# EAGLE library part LT3507A (library PowerProducts)
LT-Spice library generated with : ltspice.ulp from: E:/Programme/LTC/LTspiceIV/lib/sym/PowerProducts/LT3508*.asy at 05.10.2012 12:29:29
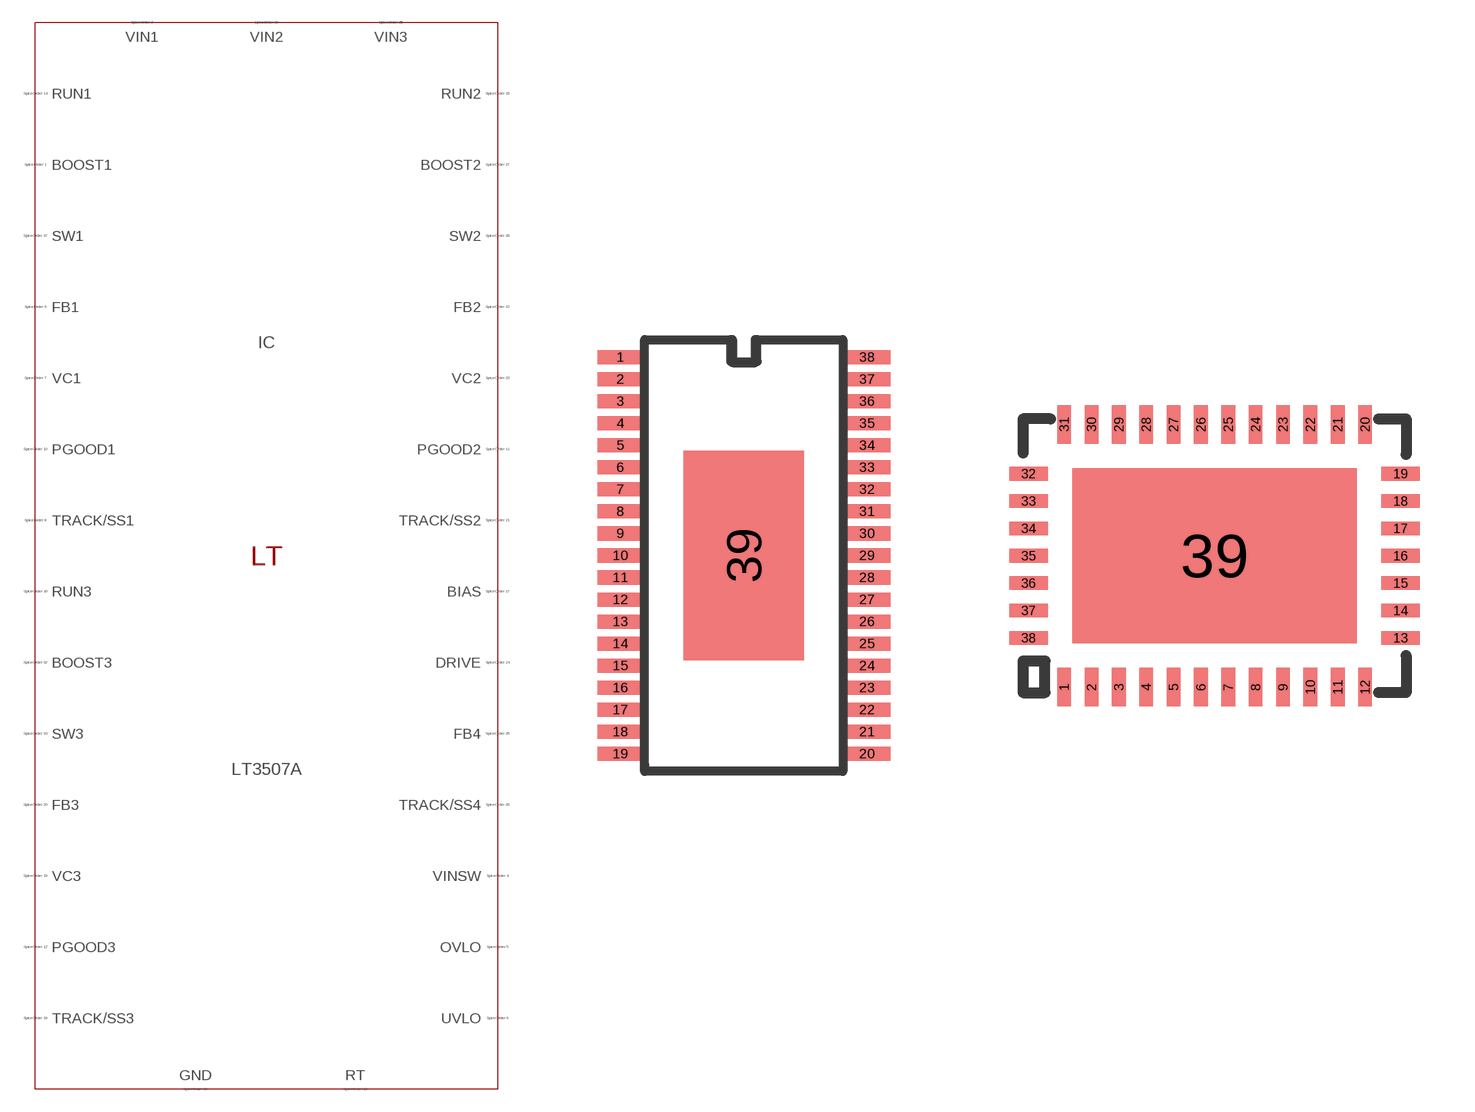
[diagram p67: symbol with the pads of TSSOP38AA(FE); footprints TSSOP38AA(FE), QFN38(UHF)]

Designator prefix IC

## LT3507A (SPICEMODEL: LT3507A.sub; SPICEPREFIX: X; VALUE2: LT3507A)  [TSSOP38AA(FE)]
1  VIN3  pas
2  SW1  pas
3  SW1  pas
4  BOOST1  pas
5  VIN1  pas
6  VIN1  pas
7  VINSW  pas
8  OVLO  pas
9  UVLO  pas
10  VC1  pas
11  TRACK/SS1  pas
12  FB1  pas
13  PGOOD1  pas
14  PGOOD2  pas
15  PGOOD3  pas
16  RT  pas
17  RUN1  pas
18  RUN2  pas
19  RUN3  pas
20  GND  pas
21  BIAS  pas
22  TRACK/SS3  pas
23  VC3  pas
24  FB3  pas
25  TRACK/SS2  pas
26  FB2  pas
28  VC2  pas
29  DRIVE  pas
30  FB4  pas
31  TRACK/SS4  pas
32  BOOST2  pas
33  SW2  pas
35  VIN2  pas
36  VIN2  pas
37  BOOST3  pas
38  SW3  pas
39  GND  pas

## LT3507AUHF (SPICEMODEL: LT3507A.sub; SPICEPREFIX: X; VALUE2: LT3507A)  [QFN38(UHF)]
1  BOOST1  pas
2  VIN1  pas
3  VIN1  pas
4  VINSW  pas
5  OVLO  pas
6  UVLO  pas
7  VC1  pas
8  TRACK/SS1  pas
9  FB1  pas
10  PGOOD1  pas
11  PGOOD2  pas
12  PGOOD3  pas
13  RT  pas
14  RUN1  pas
15  RUN2  pas
16  RUN3  pas
17  BIAS  pas
18  TRACK/SS3  pas
19  VC3  pas
20  FB3  pas
21  TRACK/SS2  pas
22  FB2  pas
23  VC2  pas
24  DRIVE  pas
25  FB4  pas
26  TRACK/SS4  pas
27  BOOST2  pas
28  SW2  pas
29  SW2  pas
30  VIN2  pas
31  VIN2  pas
32  BOOST3  pas
33  SW3  pas
34  SW3  pas
35  VIN3  pas
36  VIN3  pas
37  SW1  pas
38  SW1  pas
39  GND  pas

## Footprint TSSOP38AA(FE) (pad centres in mm)
Package generated from: TSSOP38AA(FE).asc (!PADS-POWERPCB-V9.3-BASIC! DESIGN DATABASE ASCII FILE 1.0) with :import-pads-powerpcb-v5.ulp Version 1.0.1 at 04.10.2012 14:11:40
smd 1.575 x 0.48: 1 -4.2,6.75; 2 -4.2,6; 3 -4.2,5.25; 4 -4.2,4.5; 5 -4.2,3.75; 6 -4.2,3; 7 -4.2,2.25; 8 -4.2,1.5; 9 -4.2,0.75; 10 -4.2,0; 11 -4.2,-0.75; 12 -4.2,-1.5; 13 -4.2,-2.25; 14 -4.2,-3; 15 -4.2,-3.75; 16 -4.2,-4.5; 17 -4.2,-5.25; 18 -4.2,-6; 19 -4.2,-6.75; 20 4.2,-6.75; 21 4.2,-6; 22 4.2,-5.25; 23 4.2,-4.5; 24 4.2,-3.75; 25 4.2,-3; 26 4.2,-2.25; 27 4.2,-1.5; 28 4.2,-0.75; 29 4.2,0; 30 4.2,0.75; 31 4.2,1.5; 32 4.2,2.25; 33 4.2,3; 34 4.2,3.75; 35 4.2,4.5; 36 4.2,5.25; 37 4.2,6; 38 4.2,6.75
smd 4.11 x 7.125: 39 0,0

## Footprint QFN38(UHF) (pad centres in mm)
Package generated from: QFN38(UHF).asc (!PADS-POWERPCB-V5.0-BASIC! DESIGN DATABASE ASCII FILE 1.0) with :import-pads-powerpcb-v5.ulp Version 1.0.1 at 04.10.2012 14:11:28
smd 0.375 x 1.05: 1 -4.125,-3.6; 2 -3.375,-3.6; 3 -2.625,-3.6; 4 -1.875,-3.6; 5 -1.125,-3.6; 6 -0.375,-3.6; 7 0.375,-3.6; 8 1.125,-3.6; 9 1.875,-3.6; 10 2.625,-3.6; 11 3.375,-3.6; 12 4.125,-3.6; 20 4.125,3.6; 21 3.375,3.6; 22 2.625,3.6; 23 1.875,3.6; 24 1.125,3.6; 25 0.375,3.6; 26 -0.375,3.6; 27 -1.125,3.6; 28 -1.875,3.6; 29 -2.625,3.6; 30 -3.375,3.6; 31 -4.125,3.6
smd 1.05 x 0.375: 13 5.1,-2.25; 14 5.1,-1.5; 15 5.1,-0.75; 16 5.1,0; 17 5.1,0.75; 18 5.1,1.5; 19 5.1,2.25; 32 -5.1,2.25; 33 -5.1,1.5; 34 -5.1,0.75; 35 -5.1,0; 36 -5.1,-0.75; 37 -5.1,-1.5; 38 -5.1,-2.25
smd 7.8 x 4.8: 39 0,0